# Altium integrated library Micron Memory Dynamic RAM.IntLib: 40 symbols (part 1 of 3)
Pins are listed as number, name and electrical type; pins without a type are passive.

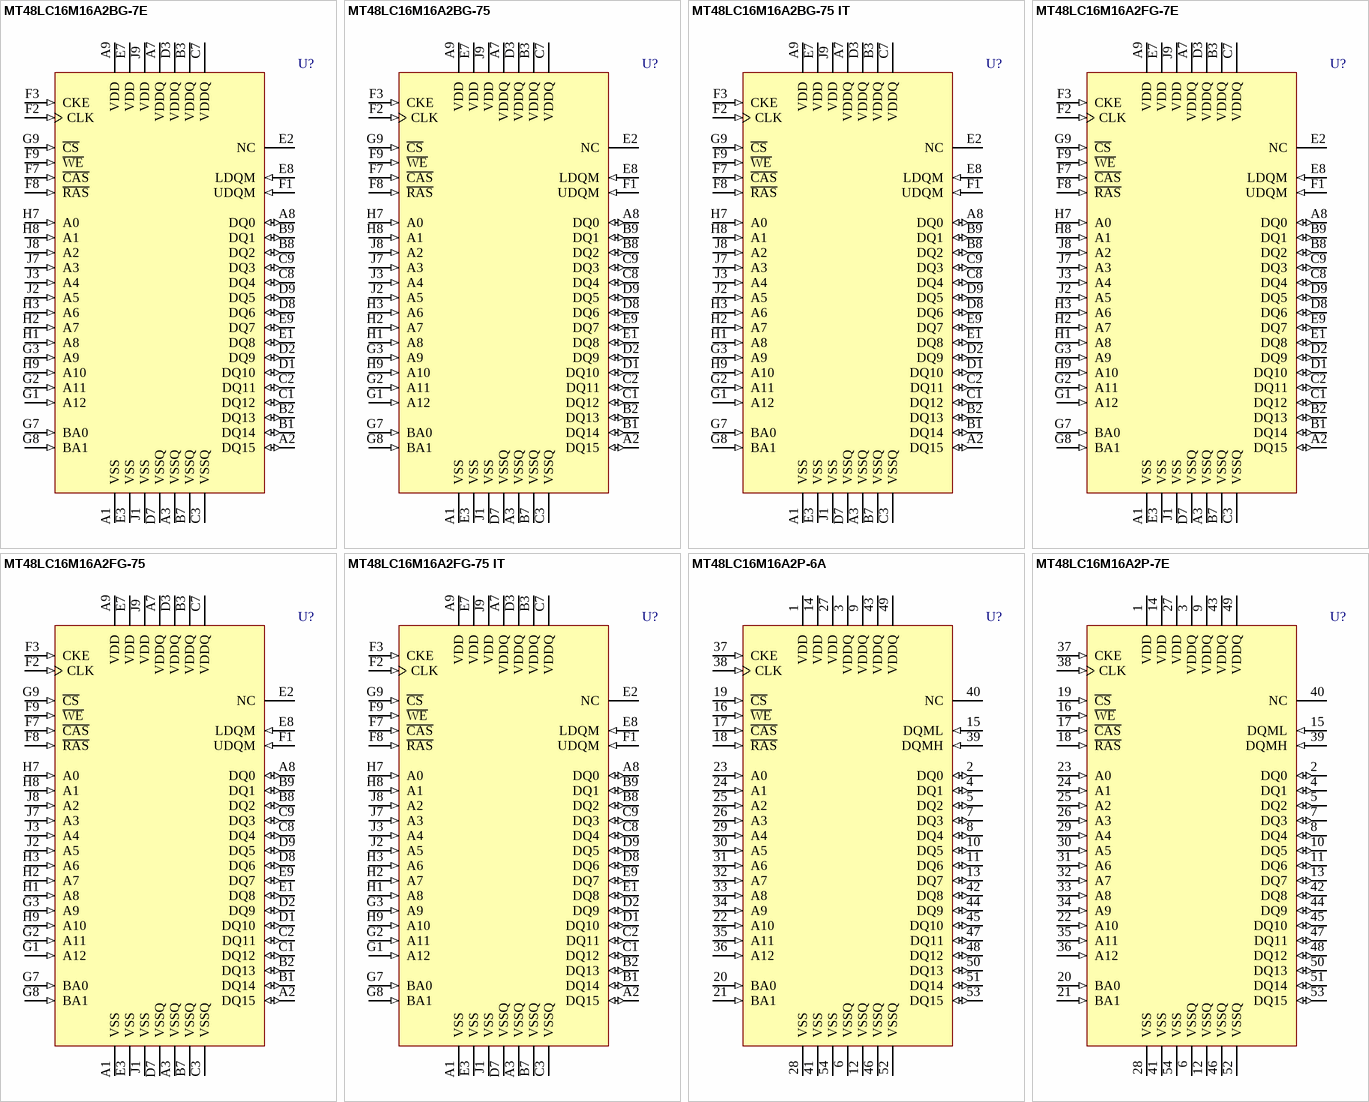
[diagram p0: symbols MT48LC16M16A2BG-7E to MT48LC16M16A2P-7E]

## MT48LC16M16A2BG-7E
designator U?
256Mb Synchronous High-Speed CMOS DRAM, 16Mb x 16Bit x 4 Banks, 54-Ball FPGA Pb-free, Commercial; CycleTime: 7.5ns @ CL = 2 (PC133); RowAddress: 8K (A0-A12); ColumnAddress: 512 (A0-A8); PCB_Layout: Manufacturer recommends pad size of 0.40mm ± 0.065mm.; Published: 11-Oct-2004; LatestRevisionDate: 27-Jun-2008; LatestRevisionNote: PCB Pad Size increased from 0.27mm.; DatasheetVersion: RevL, Oct-2007; PackageVersion: Oct-2007; PackageReference: FG; Publisher: Altium Limited; PackageDescription: 54-Ball VFBGA, 8 x 14 mm Body, 0.8 mm Pitch (FG); ComponentLink1Description: Manufacturer Link; ComponentLink1URL: http://www.micron.com; ComponentLink2Description: Datasheet; ComponentLink2URL: http://download.micron.com/pdf/datasheets/dram/sdram/256MSDRAM.pdf
footprint FG (BGA, 54-Leads, Body 14x8mm, Pitch 0.8mm)
pins: A1 VSS (power) "Ground", A2 DQ15 (io) "Data Input/Output 15", A3 VSSQ (power) "DQ Ground", A7 VDDQ (power) "DQ Power", A8 DQ0 (io) "Data Input/Output 0", A9 VDD (power) "Power Supply", B1 DQ14 (io) "Data Input/Output 14", B2 DQ13 (io) "Data Input/Output 13", B3 VDDQ (power) "DQ Power", B7 VSSQ (power) "DQ Ground", B8 DQ2 (io) "Data Input/Output 2", B9 DQ1 (io) "Data Input/Output 1", C1 DQ12 (io) "Data Input/Output 12", C2 DQ11 (io) "Data Input/Output 11", C3 VSSQ (power) "DQ Ground", C7 VDDQ (power) "DQ Power", C8 DQ4 (io) "Data Input/Output 4", C9 DQ3 (io) "Data Input/Output 3", D1 DQ10 (io) "Data Input/Output 10", D2 DQ9 (io) "Data Input/Output 9", D3 VDDQ (power) "DQ Power", D7 VSSQ (power) "DQ Ground", D8 DQ6 (io) "Data Input/Output 6", D9 DQ5 (io) "Data Input/Output 5", E1 DQ8 (io) "Data Input/Output 8", E2 NC "No Connect", E3 VSS (power) "Ground", E7 VDD (power) "Power Supply", E8 LDQM (in) "Input/Output Mask for DQ0-DQ7", E9 DQ7 (io) "Data Input/Output 7", F1 UDQM (in) "Input/Output Mask for DQ8-DQ15", F2 CLK (in) "Clock", F3 CKE (in) "Clock Enable", F7 ~{CAS} (in) "Command Input", F8 ~{RAS} (in) "Command Input", F9 ~{WE} (in) "Command Input", G1 A12 (in) "Address Input 12", G2 A11 (in) "Address Input 11", G3 A9 (in) "Address Input 9", G7 BA0 (in) "Bank Address Input 0", G8 BA1 (in) "Bank Address Input 1", G9 ~{CS} (in) "Chip Select", H1 A8 (in) "Address Input 8", H2 A7 (in) "Address Input 7", H3 A6 (in) "Address Input 6", H7 A0 (in) "Address Input 0", H8 A1 (in) "Address Input 1", H9 A10 (in) "Address Input 10", J1 VSS (power) "Ground", J2 A5 (in) "Address Input 5", J3 A4 (in) "Address Input 4", J7 A3 (in) "Address Input 3", J8 A2 (in) "Address Input 2", J9 VDD (power) "Power Supply"

## MT48LC16M16A2BG-75
designator U?
256Mb Synchronous High-Speed CMOS DRAM, 16Mb x 16Bit x 4 Banks, 54-Ball FPGA Pb-free, Commercial; CycleTime: 7.5ns @ CL = 3 (PC133); RowAddress: 8K (A0-A12); ColumnAddress: 512 (A0-A8); PCB_Layout: Manufacturer recommends pad size of 0.40mm ± 0.065mm.; Published: 11-Oct-2004; LatestRevisionDate: 27-Jun-2008; LatestRevisionNote: PCB Pad Size increased from 0.27mm.; DatasheetVersion: RevL, Oct-2007; PackageVersion: Oct-2007; PackageReference: FG; Publisher: Altium Limited; PackageDescription: 54-Ball VFBGA, 8 x 14 mm Body, 0.8 mm Pitch (FG); ComponentLink1Description: Manufacturer Link; ComponentLink1URL: http://www.micron.com; ComponentLink2Description: Datasheet; ComponentLink2URL: http://download.micron.com/pdf/datasheets/dram/sdram/256MSDRAM.pdf
footprint FG (BGA, 54-Leads, Body 14x8mm, Pitch 0.8mm)
pins: A1 VSS (power) "Ground", A2 DQ15 (io) "Data Input/Output 15", A3 VSSQ (power) "DQ Ground", A7 VDDQ (power) "DQ Power", A8 DQ0 (io) "Data Input/Output 0", A9 VDD (power) "Power Supply", B1 DQ14 (io) "Data Input/Output 14", B2 DQ13 (io) "Data Input/Output 13", B3 VDDQ (power) "DQ Power", B7 VSSQ (power) "DQ Ground", B8 DQ2 (io) "Data Input/Output 2", B9 DQ1 (io) "Data Input/Output 1", C1 DQ12 (io) "Data Input/Output 12", C2 DQ11 (io) "Data Input/Output 11", C3 VSSQ (power) "DQ Ground", C7 VDDQ (power) "DQ Power", C8 DQ4 (io) "Data Input/Output 4", C9 DQ3 (io) "Data Input/Output 3", D1 DQ10 (io) "Data Input/Output 10", D2 DQ9 (io) "Data Input/Output 9", D3 VDDQ (power) "DQ Power", D7 VSSQ (power) "DQ Ground", D8 DQ6 (io) "Data Input/Output 6", D9 DQ5 (io) "Data Input/Output 5", E1 DQ8 (io) "Data Input/Output 8", E2 NC "No Connect", E3 VSS (power) "Ground", E7 VDD (power) "Power Supply", E8 LDQM (in) "Input/Output Mask for DQ0-DQ7", E9 DQ7 (io) "Data Input/Output 7", F1 UDQM (in) "Input/Output Mask for DQ8-DQ15", F2 CLK (in) "Clock", F3 CKE (in) "Clock Enable", F7 ~{CAS} (in) "Command Input", F8 ~{RAS} (in) "Command Input", F9 ~{WE} (in) "Command Input", G1 A12 (in) "Address Input 12", G2 A11 (in) "Address Input 11", G3 A9 (in) "Address Input 9", G7 BA0 (in) "Bank Address Input 0", G8 BA1 (in) "Bank Address Input 1", G9 ~{CS} (in) "Chip Select", H1 A8 (in) "Address Input 8", H2 A7 (in) "Address Input 7", H3 A6 (in) "Address Input 6", H7 A0 (in) "Address Input 0", H8 A1 (in) "Address Input 1", H9 A10 (in) "Address Input 10", J1 VSS (power) "Ground", J2 A5 (in) "Address Input 5", J3 A4 (in) "Address Input 4", J7 A3 (in) "Address Input 3", J8 A2 (in) "Address Input 2", J9 VDD (power) "Power Supply"

## MT48LC16M16A2BG-75 IT
designator U?
256Mb Synchronous High-Speed CMOS DRAM, 16Mb x 16Bit x 4 Banks, 54-Ball FPGA Pb-free, Industrial; CycleTime: 7.5ns @ CL = 3 (PC133); RowAddress: 8K (A0-A12); ColumnAddress: 512 (A0-A8); PCB_Layout: Manufacturer recommends pad size of 0.40mm ± 0.065mm.; Published: 11-Oct-2004; LatestRevisionDate: 27-Jun-2008; LatestRevisionNote: PCB Pad Size increased from 0.27mm.; DatasheetVersion: RevL, Oct-2007; PackageVersion: Oct-2007; PackageReference: FG; Publisher: Altium Limited; PackageDescription: 54-Ball VFBGA, 8 x 14 mm Body, 0.8 mm Pitch (FG); ComponentLink1Description: Manufacturer Link; ComponentLink1URL: http://www.micron.com; ComponentLink2Description: Datasheet; ComponentLink2URL: http://download.micron.com/pdf/datasheets/dram/sdram/256MSDRAM.pdf
footprint FG (BGA, 54-Leads, Body 14x8mm, Pitch 0.8mm)
pins: A1 VSS (power) "Ground", A2 DQ15 (io) "Data Input/Output 15", A3 VSSQ (power) "DQ Ground", A7 VDDQ (power) "DQ Power", A8 DQ0 (io) "Data Input/Output 0", A9 VDD (power) "Power Supply", B1 DQ14 (io) "Data Input/Output 14", B2 DQ13 (io) "Data Input/Output 13", B3 VDDQ (power) "DQ Power", B7 VSSQ (power) "DQ Ground", B8 DQ2 (io) "Data Input/Output 2", B9 DQ1 (io) "Data Input/Output 1", C1 DQ12 (io) "Data Input/Output 12", C2 DQ11 (io) "Data Input/Output 11", C3 VSSQ (power) "DQ Ground", C7 VDDQ (power) "DQ Power", C8 DQ4 (io) "Data Input/Output 4", C9 DQ3 (io) "Data Input/Output 3", D1 DQ10 (io) "Data Input/Output 10", D2 DQ9 (io) "Data Input/Output 9", D3 VDDQ (power) "DQ Power", D7 VSSQ (power) "DQ Ground", D8 DQ6 (io) "Data Input/Output 6", D9 DQ5 (io) "Data Input/Output 5", E1 DQ8 (io) "Data Input/Output 8", E2 NC "No Connect", E3 VSS (power) "Ground", E7 VDD (power) "Power Supply", E8 LDQM (in) "Input/Output Mask for DQ0-DQ7", E9 DQ7 (io) "Data Input/Output 7", F1 UDQM (in) "Input/Output Mask for DQ8-DQ15", F2 CLK (in) "Clock", F3 CKE (in) "Clock Enable", F7 ~{CAS} (in) "Command Input", F8 ~{RAS} (in) "Command Input", F9 ~{WE} (in) "Command Input", G1 A12 (in) "Address Input 12", G2 A11 (in) "Address Input 11", G3 A9 (in) "Address Input 9", G7 BA0 (in) "Bank Address Input 0", G8 BA1 (in) "Bank Address Input 1", G9 ~{CS} (in) "Chip Select", H1 A8 (in) "Address Input 8", H2 A7 (in) "Address Input 7", H3 A6 (in) "Address Input 6", H7 A0 (in) "Address Input 0", H8 A1 (in) "Address Input 1", H9 A10 (in) "Address Input 10", J1 VSS (power) "Ground", J2 A5 (in) "Address Input 5", J3 A4 (in) "Address Input 4", J7 A3 (in) "Address Input 3", J8 A2 (in) "Address Input 2", J9 VDD (power) "Power Supply"

## MT48LC16M16A2FG-7E
designator U?
256Mb Synchronous High-Speed CMOS DRAM, 16Mb x 16Bit x 4 Banks, 54-Ball FPGA, Commercial; CycleTime: 7.5ns @ CL = 2 (PC133); RowAddress: 8K (A0-A12); ColumnAddress: 512 (A0-A8); PCB_Layout: Manufacturer recommends pad size of 0.40mm ± 0.065mm.; Published: 11-Oct-2004; LatestRevisionDate: 27-Jun-2008; LatestRevisionNote: PCB Pad Size increased from 0.27mm.; DatasheetVersion: RevL, Oct-2007; PackageVersion: Oct-2007; PackageReference: FG; Publisher: Altium Limited; PackageDescription: 54-Ball VFBGA, 8 x 14 mm Body, 0.8 mm Pitch (FG); ComponentLink1Description: Manufacturer Link; ComponentLink1URL: http://www.micron.com; ComponentLink2Description: Datasheet; ComponentLink2URL: http://download.micron.com/pdf/datasheets/dram/sdram/256MSDRAM.pdf
footprint FG (BGA, 54-Leads, Body 14x8mm, Pitch 0.8mm)
pins: A1 VSS (power) "Ground", A2 DQ15 (io) "Data Input/Output 15", A3 VSSQ (power) "DQ Ground", A7 VDDQ (power) "DQ Power", A8 DQ0 (io) "Data Input/Output 0", A9 VDD (power) "Power Supply", B1 DQ14 (io) "Data Input/Output 14", B2 DQ13 (io) "Data Input/Output 13", B3 VDDQ (power) "DQ Power", B7 VSSQ (power) "DQ Ground", B8 DQ2 (io) "Data Input/Output 2", B9 DQ1 (io) "Data Input/Output 1", C1 DQ12 (io) "Data Input/Output 12", C2 DQ11 (io) "Data Input/Output 11", C3 VSSQ (power) "DQ Ground", C7 VDDQ (power) "DQ Power", C8 DQ4 (io) "Data Input/Output 4", C9 DQ3 (io) "Data Input/Output 3", D1 DQ10 (io) "Data Input/Output 10", D2 DQ9 (io) "Data Input/Output 9", D3 VDDQ (power) "DQ Power", D7 VSSQ (power) "DQ Ground", D8 DQ6 (io) "Data Input/Output 6", D9 DQ5 (io) "Data Input/Output 5", E1 DQ8 (io) "Data Input/Output 8", E2 NC "No Connect", E3 VSS (power) "Ground", E7 VDD (power) "Power Supply", E8 LDQM (in) "Input/Output Mask for DQ0-DQ7", E9 DQ7 (io) "Data Input/Output 7", F1 UDQM (in) "Input/Output Mask for DQ8-DQ15", F2 CLK (in) "Clock", F3 CKE (in) "Clock Enable", F7 ~{CAS} (in) "Command Input", F8 ~{RAS} (in) "Command Input", F9 ~{WE} (in) "Command Input", G1 A12 (in) "Address Input 12", G2 A11 (in) "Address Input 11", G3 A9 (in) "Address Input 9", G7 BA0 (in) "Bank Address Input 0", G8 BA1 (in) "Bank Address Input 1", G9 ~{CS} (in) "Chip Select", H1 A8 (in) "Address Input 8", H2 A7 (in) "Address Input 7", H3 A6 (in) "Address Input 6", H7 A0 (in) "Address Input 0", H8 A1 (in) "Address Input 1", H9 A10 (in) "Address Input 10", J1 VSS (power) "Ground", J2 A5 (in) "Address Input 5", J3 A4 (in) "Address Input 4", J7 A3 (in) "Address Input 3", J8 A2 (in) "Address Input 2", J9 VDD (power) "Power Supply"

## MT48LC16M16A2FG-75
designator U?
256Mb Synchronous High-Speed CMOS DRAM, 16Mb x 16Bit x 4 Banks, 54-Ball FPGA, Commercial; CycleTime: 7.5ns @ CL = 3 (PC133); RowAddress: 8K (A0-A12); ColumnAddress: 512 (A0-A8); PCB_Layout: Manufacturer recommends pad size of 0.40mm ± 0.065mm.; Published: 11-Oct-2004; LatestRevisionDate: 27-Jun-2008; LatestRevisionNote: PCB Pad Size increased from 0.27mm.; DatasheetVersion: RevL, Oct-2007; PackageVersion: Oct-2007; PackageReference: FG; Publisher: Altium Limited; PackageDescription: 54-Ball VFBGA, 8 x 14 mm Body, 0.8 mm Pitch (FG); ComponentLink1Description: Manufacturer Link; ComponentLink1URL: http://www.micron.com; ComponentLink2Description: Datasheet; ComponentLink2URL: http://download.micron.com/pdf/datasheets/dram/sdram/256MSDRAM.pdf
footprint FG (BGA, 54-Leads, Body 14x8mm, Pitch 0.8mm)
pins: A1 VSS (power) "Ground", A2 DQ15 (io) "Data Input/Output 15", A3 VSSQ (power) "DQ Ground", A7 VDDQ (power) "DQ Power", A8 DQ0 (io) "Data Input/Output 0", A9 VDD (power) "Power Supply", B1 DQ14 (io) "Data Input/Output 14", B2 DQ13 (io) "Data Input/Output 13", B3 VDDQ (power) "DQ Power", B7 VSSQ (power) "DQ Ground", B8 DQ2 (io) "Data Input/Output 2", B9 DQ1 (io) "Data Input/Output 1", C1 DQ12 (io) "Data Input/Output 12", C2 DQ11 (io) "Data Input/Output 11", C3 VSSQ (power) "DQ Ground", C7 VDDQ (power) "DQ Power", C8 DQ4 (io) "Data Input/Output 4", C9 DQ3 (io) "Data Input/Output 3", D1 DQ10 (io) "Data Input/Output 10", D2 DQ9 (io) "Data Input/Output 9", D3 VDDQ (power) "DQ Power", D7 VSSQ (power) "DQ Ground", D8 DQ6 (io) "Data Input/Output 6", D9 DQ5 (io) "Data Input/Output 5", E1 DQ8 (io) "Data Input/Output 8", E2 NC "No Connect", E3 VSS (power) "Ground", E7 VDD (power) "Power Supply", E8 LDQM (in) "Input/Output Mask for DQ0-DQ7", E9 DQ7 (io) "Data Input/Output 7", F1 UDQM (in) "Input/Output Mask for DQ8-DQ15", F2 CLK (in) "Clock", F3 CKE (in) "Clock Enable", F7 ~{CAS} (in) "Command Input", F8 ~{RAS} (in) "Command Input", F9 ~{WE} (in) "Command Input", G1 A12 (in) "Address Input 12", G2 A11 (in) "Address Input 11", G3 A9 (in) "Address Input 9", G7 BA0 (in) "Bank Address Input 0", G8 BA1 (in) "Bank Address Input 1", G9 ~{CS} (in) "Chip Select", H1 A8 (in) "Address Input 8", H2 A7 (in) "Address Input 7", H3 A6 (in) "Address Input 6", H7 A0 (in) "Address Input 0", H8 A1 (in) "Address Input 1", H9 A10 (in) "Address Input 10", J1 VSS (power) "Ground", J2 A5 (in) "Address Input 5", J3 A4 (in) "Address Input 4", J7 A3 (in) "Address Input 3", J8 A2 (in) "Address Input 2", J9 VDD (power) "Power Supply"

## MT48LC16M16A2FG-75 IT
designator U?
256Mb Synchronous High-Speed CMOS DRAM, 16Mb x 16Bit x 4 Banks, 54-Ball FPGA, Industrial; CycleTime: 7.5ns @ CL = 3 (PC133); RowAddress: 8K (A0-A12); ColumnAddress: 512 (A0-A8); PCB_Layout: Manufacturer recommends pad size of 0.40mm ± 0.065mm.; Published: 11-Oct-2004; LatestRevisionDate: 27-Jun-2008; LatestRevisionNote: PCB Pad Size increased from 0.27mm.; DatasheetVersion: RevL, Oct-2007; PackageVersion: Oct-2007; PackageReference: FG; Publisher: Altium Limited; PackageDescription: 54-Ball VFBGA, 8 x 14 mm Body, 0.8 mm Pitch (FG); ComponentLink1Description: Manufacturer Link; ComponentLink1URL: http://www.micron.com; ComponentLink2Description: Datasheet; ComponentLink2URL: http://download.micron.com/pdf/datasheets/dram/sdram/256MSDRAM.pdf
footprint FG (BGA, 54-Leads, Body 14x8mm, Pitch 0.8mm)
pins: A1 VSS (power) "Ground", A2 DQ15 (io) "Data Input/Output 15", A3 VSSQ (power) "DQ Ground", A7 VDDQ (power) "DQ Power", A8 DQ0 (io) "Data Input/Output 0", A9 VDD (power) "Power Supply", B1 DQ14 (io) "Data Input/Output 14", B2 DQ13 (io) "Data Input/Output 13", B3 VDDQ (power) "DQ Power", B7 VSSQ (power) "DQ Ground", B8 DQ2 (io) "Data Input/Output 2", B9 DQ1 (io) "Data Input/Output 1", C1 DQ12 (io) "Data Input/Output 12", C2 DQ11 (io) "Data Input/Output 11", C3 VSSQ (power) "DQ Ground", C7 VDDQ (power) "DQ Power", C8 DQ4 (io) "Data Input/Output 4", C9 DQ3 (io) "Data Input/Output 3", D1 DQ10 (io) "Data Input/Output 10", D2 DQ9 (io) "Data Input/Output 9", D3 VDDQ (power) "DQ Power", D7 VSSQ (power) "DQ Ground", D8 DQ6 (io) "Data Input/Output 6", D9 DQ5 (io) "Data Input/Output 5", E1 DQ8 (io) "Data Input/Output 8", E2 NC "No Connect", E3 VSS (power) "Ground", E7 VDD (power) "Power Supply", E8 LDQM (in) "Input/Output Mask for DQ0-DQ7", E9 DQ7 (io) "Data Input/Output 7", F1 UDQM (in) "Input/Output Mask for DQ8-DQ15", F2 CLK (in) "Clock", F3 CKE (in) "Clock Enable", F7 ~{CAS} (in) "Command Input", F8 ~{RAS} (in) "Command Input", F9 ~{WE} (in) "Command Input", G1 A12 (in) "Address Input 12", G2 A11 (in) "Address Input 11", G3 A9 (in) "Address Input 9", G7 BA0 (in) "Bank Address Input 0", G8 BA1 (in) "Bank Address Input 1", G9 ~{CS} (in) "Chip Select", H1 A8 (in) "Address Input 8", H2 A7 (in) "Address Input 7", H3 A6 (in) "Address Input 6", H7 A0 (in) "Address Input 0", H8 A1 (in) "Address Input 1", H9 A10 (in) "Address Input 10", J1 VSS (power) "Ground", J2 A5 (in) "Address Input 5", J3 A4 (in) "Address Input 4", J7 A3 (in) "Address Input 3", J8 A2 (in) "Address Input 2", J9 VDD (power) "Power Supply"

## MT48LC16M16A2P-6A
designator U?
256Mb Synchronous High-Speed CMOS DRAM, 16Mb x 16Bit x 4 Banks, 54-Pin TSOP Pb-free, Commercial; CycleTime: 6.0ns @ CL = 3; RowAddress: 8K (A0-A12); ColumnAddress: 512 (A0-A8); Published: 11-Oct-2004; LatestRevisionDate: 13-Apr-2006; LatestRevisionNote: IPC-7351 Footprint Added.; DatasheetVersion: RevL, Oct-2007; PackageVersion: Sep-2003; PackageReference: TSOP2-54; Publisher: Altium Limited; PackageDescription: 54-Pin Plastic Small Outline Package 0.8 mm Pitch; Code_JEDEC: MS-024-FA; ComponentLink1Description: Manufacturer Link; ComponentLink1URL: http://www.micron.com; ComponentLink2Description: Datasheet; ComponentLink2URL: http://download.micron.com/pdf/datasheets/dram/sdram/256MSDRAM.pdf
footprint TSOP2-54_N (SOP, 54-Leads, Body 22.2x10.16mm, Pitch 0.8mm, IPC Medium Density)
footprint TSOP2-54_L (SOP, 54-Leads, Body 22.2x10.16mm, Pitch 0.8mm, IPC High Density)
footprint TSOP2-54_M (SOP, 54-Leads, Body 22.2x10.16mm, Pitch 0.8mm, IPC Low Density)
pins: 1 VDD (power) "Power Supply", 2 DQ0 (io) "Data Input/Output 0", 3 VDDQ (power) "DQ Power", 4 DQ1 (io) "Data Input/Output 1", 5 DQ2 (io) "Data Input/Output 2", 6 VSSQ (power) "DQ Ground", 7 DQ3 (io) "Data Input/Output 3", 8 DQ4 (io) "Data Input/Output 4", 9 VDDQ (power) "DQ Power", 10 DQ5 (io) "Data Input/Output 5", 11 DQ6 (io) "Data Input/Output 6", 12 VSSQ (power) "DQ Ground", 13 DQ7 (io) "Data Input/Output 7", 14 VDD (power) "Power Supply", 15 DQML (in) "Input/Output Mask for DQ0-DQ7", 16 ~{WE} (in) "Command Input", 17 ~{CAS} (in) "Command Input", 18 ~{RAS} (in) "Command Input", 19 ~{CS} (in) "Chip Select", 20 BA0 (in) "Bank Address Input 0", 21 BA1 (in) "Bank Address Input 1", 22 A10 (in) "Address Input 10", 23 A0 (in) "Address Input 0", 24 A1 (in) "Address Input 1", 25 A2 (in) "Address Input 2", 26 A3 (in) "Address Input 3", 27 VDD (power) "Power Supply", 28 VSS (power) "Ground", 29 A4 (in) "Address Input 4", 30 A5 (in) "Address Input 5", 31 A6 (in) "Address Input 6", 32 A7 (in) "Address Input 7", 33 A8 (in) "Address Input 8", 34 A9 (in) "Address Input 9", 35 A11 (in) "Address Input 11", 36 A12 (in) "Address Input 12", 37 CKE (in) "Clock Enable", 38 CLK (in) "Clock", 39 DQMH (in) "Input/Output Mask for DQ8-DQ15", 40 NC "No Connect", 41 VSS (power) "Ground", 42 DQ8 (io) "Data Input/Output 8", 43 VDDQ (power) "DQ Power", 44 DQ9 (io) "Data Input/Output 9", 45 DQ10 (io) "Data Input/Output 10", 46 VSSQ (power) "DQ Ground", 47 DQ11 (io) "Data Input/Output 11", 48 DQ12 (io) "Data Input/Output 12", 49 VDDQ (power) "DQ Power", 50 DQ13 (io) "Data Input/Output 13", 51 DQ14 (io) "Data Input/Output 14", 52 VSSQ (power) "DQ Ground", 53 DQ15 (io) "Data Input/Output 15", 54 VSS (power) "Ground"

## MT48LC16M16A2P-7E
designator U?
256Mb Synchronous High-Speed CMOS DRAM, 16Mb x 16Bit x 4 Banks, 54-Pin TSOP Pb-free, Commercial; CycleTime: 7.5ns @ CL = 2 (PC133); RowAddress: 8K (A0-A12); ColumnAddress: 512 (A0-A8); Published: 11-Oct-2004; LatestRevisionDate: 13-Apr-2006; LatestRevisionNote: IPC-7351 Footprint Added.; DatasheetVersion: RevL, Oct-2007; PackageVersion: Sep-2003; PackageReference: TSOP2-54; Publisher: Altium Limited; PackageDescription: 54-Pin Plastic Small Outline Package 0.8 mm Pitch; Code_JEDEC: MS-024-FA; ComponentLink1Description: Manufacturer Link; ComponentLink1URL: http://www.micron.com; ComponentLink2Description: Datasheet; ComponentLink2URL: http://download.micron.com/pdf/datasheets/dram/sdram/256MSDRAM.pdf
footprint TSOP2-54_N (SOP, 54-Leads, Body 22.2x10.16mm, Pitch 0.8mm, IPC Medium Density)
footprint TSOP2-54_L (SOP, 54-Leads, Body 22.2x10.16mm, Pitch 0.8mm, IPC High Density)
footprint TSOP2-54_M (SOP, 54-Leads, Body 22.2x10.16mm, Pitch 0.8mm, IPC Low Density)
pins: 1 VDD (power) "Power Supply", 2 DQ0 (io) "Data Input/Output 0", 3 VDDQ (power) "DQ Power", 4 DQ1 (io) "Data Input/Output 1", 5 DQ2 (io) "Data Input/Output 2", 6 VSSQ (power) "DQ Ground", 7 DQ3 (io) "Data Input/Output 3", 8 DQ4 (io) "Data Input/Output 4", 9 VDDQ (power) "DQ Power", 10 DQ5 (io) "Data Input/Output 5", 11 DQ6 (io) "Data Input/Output 6", 12 VSSQ (power) "DQ Ground", 13 DQ7 (io) "Data Input/Output 7", 14 VDD (power) "Power Supply", 15 DQML (in) "Input/Output Mask for DQ0-DQ7", 16 ~{WE} (in) "Command Input", 17 ~{CAS} (in) "Command Input", 18 ~{RAS} (in) "Command Input", 19 ~{CS} (in) "Chip Select", 20 BA0 (in) "Bank Address Input 0", 21 BA1 (in) "Bank Address Input 1", 22 A10 (in) "Address Input 10", 23 A0 (in) "Address Input 0", 24 A1 (in) "Address Input 1", 25 A2 (in) "Address Input 2", 26 A3 (in) "Address Input 3", 27 VDD (power) "Power Supply", 28 VSS (power) "Ground", 29 A4 (in) "Address Input 4", 30 A5 (in) "Address Input 5", 31 A6 (in) "Address Input 6", 32 A7 (in) "Address Input 7", 33 A8 (in) "Address Input 8", 34 A9 (in) "Address Input 9", 35 A11 (in) "Address Input 11", 36 A12 (in) "Address Input 12", 37 CKE (in) "Clock Enable", 38 CLK (in) "Clock", 39 DQMH (in) "Input/Output Mask for DQ8-DQ15", 40 NC "No Connect", 41 VSS (power) "Ground", 42 DQ8 (io) "Data Input/Output 8", 43 VDDQ (power) "DQ Power", 44 DQ9 (io) "Data Input/Output 9", 45 DQ10 (io) "Data Input/Output 10", 46 VSSQ (power) "DQ Ground", 47 DQ11 (io) "Data Input/Output 11", 48 DQ12 (io) "Data Input/Output 12", 49 VDDQ (power) "DQ Power", 50 DQ13 (io) "Data Input/Output 13", 51 DQ14 (io) "Data Input/Output 14", 52 VSSQ (power) "DQ Ground", 53 DQ15 (io) "Data Input/Output 15", 54 VSS (power) "Ground"

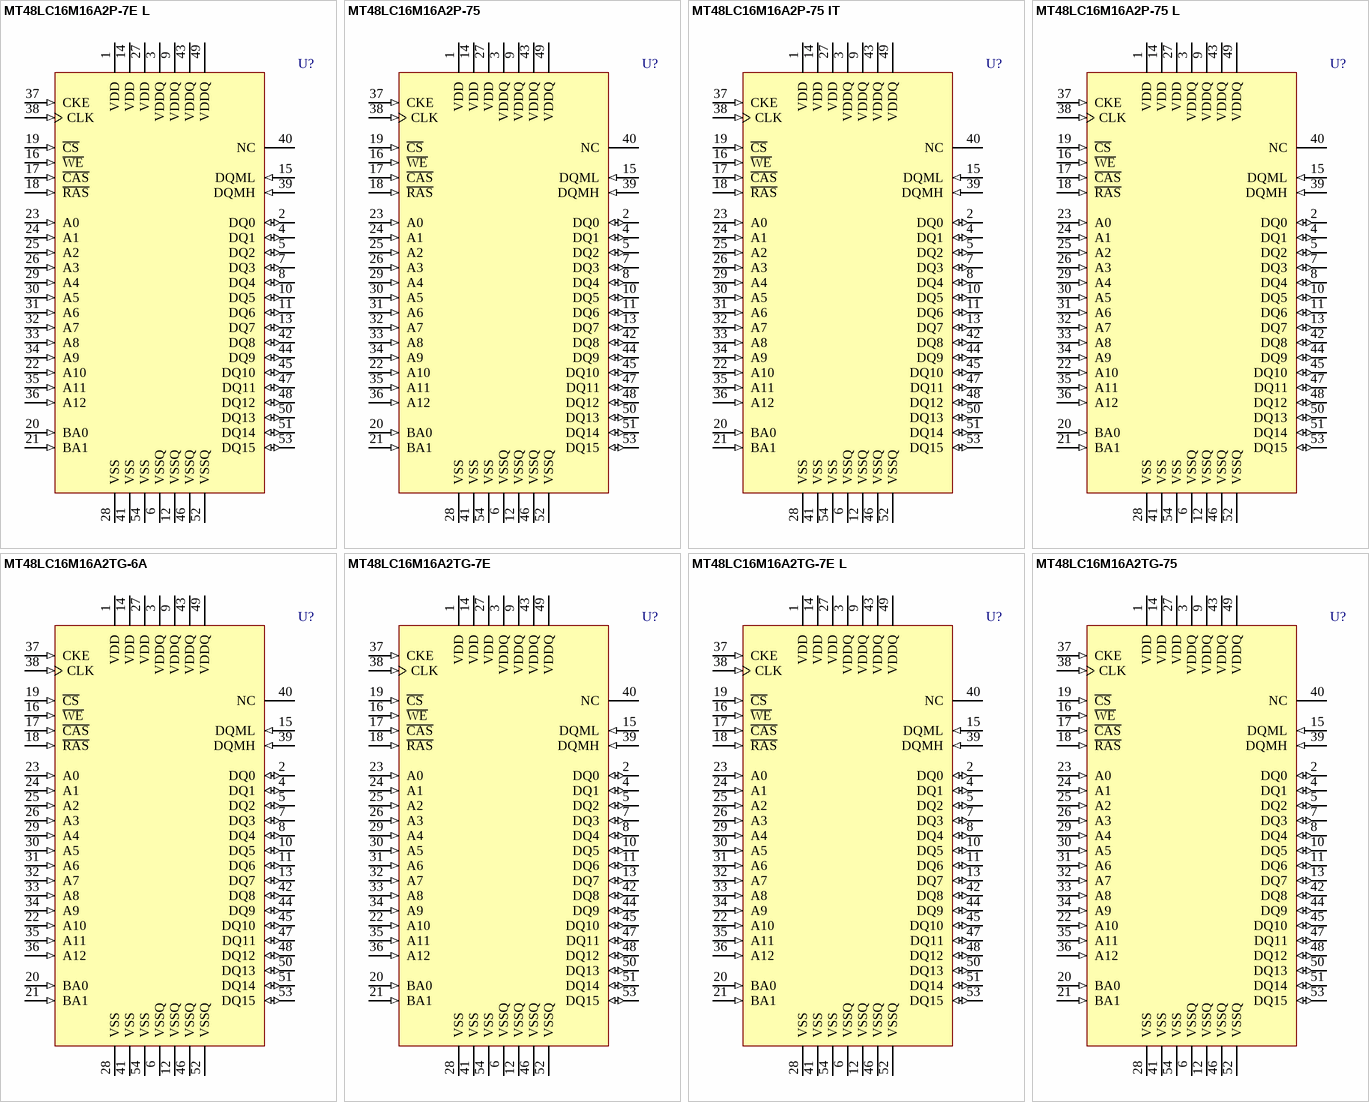
[diagram p1: symbols MT48LC16M16A2P-7E L to MT48LC16M16A2TG-75]

## MT48LC16M16A2P-7E L
designator U?
256Mb Synchronous High-Speed CMOS DRAM, 16Mb x 16Bit x 4 Banks, 54-Pin TSOP Pb-free, Commercial, Low Power; CycleTime: 7.5ns @ CL = 2 (PC133); RowAddress: 8K (A0-A12); ColumnAddress: 512 (A0-A8); Published: 11-Oct-2004; LatestRevisionDate: 13-Apr-2006; LatestRevisionNote: IPC-7351 Footprint Added.; DatasheetVersion: RevL, Oct-2007; PackageVersion: Sep-2003; PackageReference: TSOP2-54; Publisher: Altium Limited; PackageDescription: 54-Pin Plastic Small Outline Package 0.8 mm Pitch; Code_JEDEC: MS-024-FA; ComponentLink1Description: Manufacturer Link; ComponentLink1URL: http://www.micron.com; ComponentLink2Description: Datasheet; ComponentLink2URL: http://download.micron.com/pdf/datasheets/dram/sdram/256MSDRAM.pdf
footprint TSOP2-54_N (SOP, 54-Leads, Body 22.2x10.16mm, Pitch 0.8mm, IPC Medium Density)
footprint TSOP2-54_L (SOP, 54-Leads, Body 22.2x10.16mm, Pitch 0.8mm, IPC High Density)
footprint TSOP2-54_M (SOP, 54-Leads, Body 22.2x10.16mm, Pitch 0.8mm, IPC Low Density)
pins: 1 VDD (power) "Power Supply", 2 DQ0 (io) "Data Input/Output 0", 3 VDDQ (power) "DQ Power", 4 DQ1 (io) "Data Input/Output 1", 5 DQ2 (io) "Data Input/Output 2", 6 VSSQ (power) "DQ Ground", 7 DQ3 (io) "Data Input/Output 3", 8 DQ4 (io) "Data Input/Output 4", 9 VDDQ (power) "DQ Power", 10 DQ5 (io) "Data Input/Output 5", 11 DQ6 (io) "Data Input/Output 6", 12 VSSQ (power) "DQ Ground", 13 DQ7 (io) "Data Input/Output 7", 14 VDD (power) "Power Supply", 15 DQML (in) "Input/Output Mask for DQ0-DQ7", 16 ~{WE} (in) "Command Input", 17 ~{CAS} (in) "Command Input", 18 ~{RAS} (in) "Command Input", 19 ~{CS} (in) "Chip Select", 20 BA0 (in) "Bank Address Input 0", 21 BA1 (in) "Bank Address Input 1", 22 A10 (in) "Address Input 10", 23 A0 (in) "Address Input 0", 24 A1 (in) "Address Input 1", 25 A2 (in) "Address Input 2", 26 A3 (in) "Address Input 3", 27 VDD (power) "Power Supply", 28 VSS (power) "Ground", 29 A4 (in) "Address Input 4", 30 A5 (in) "Address Input 5", 31 A6 (in) "Address Input 6", 32 A7 (in) "Address Input 7", 33 A8 (in) "Address Input 8", 34 A9 (in) "Address Input 9", 35 A11 (in) "Address Input 11", 36 A12 (in) "Address Input 12", 37 CKE (in) "Clock Enable", 38 CLK (in) "Clock", 39 DQMH (in) "Input/Output Mask for DQ8-DQ15", 40 NC "No Connect", 41 VSS (power) "Ground", 42 DQ8 (io) "Data Input/Output 8", 43 VDDQ (power) "DQ Power", 44 DQ9 (io) "Data Input/Output 9", 45 DQ10 (io) "Data Input/Output 10", 46 VSSQ (power) "DQ Ground", 47 DQ11 (io) "Data Input/Output 11", 48 DQ12 (io) "Data Input/Output 12", 49 VDDQ (power) "DQ Power", 50 DQ13 (io) "Data Input/Output 13", 51 DQ14 (io) "Data Input/Output 14", 52 VSSQ (power) "DQ Ground", 53 DQ15 (io) "Data Input/Output 15", 54 VSS (power) "Ground"

## MT48LC16M16A2P-75
designator U?
256Mb Synchronous High-Speed CMOS DRAM, 16Mb x 16Bit x 4 Banks, 54-Pin TSOP Pb-free, Commercial; CycleTime: 7.5ns @ CL = 3 (PC133); RowAddress: 8K (A0-A12); ColumnAddress: 512 (A0-A8); Published: 11-Oct-2004; LatestRevisionDate: 13-Apr-2006; LatestRevisionNote: IPC-7351 Footprint Added.; DatasheetVersion: RevL, Oct-2007; PackageVersion: Sep-2003; PackageReference: TSOP2-54; Publisher: Altium Limited; PackageDescription: 54-Pin Plastic Small Outline Package 0.8 mm Pitch; Code_JEDEC: MS-024-FA; ComponentLink1Description: Manufacturer Link; ComponentLink1URL: http://www.micron.com; ComponentLink2Description: Datasheet; ComponentLink2URL: http://download.micron.com/pdf/datasheets/dram/sdram/256MSDRAM.pdf
footprint TSOP2-54_N (SOP, 54-Leads, Body 22.2x10.16mm, Pitch 0.8mm, IPC Medium Density)
footprint TSOP2-54_L (SOP, 54-Leads, Body 22.2x10.16mm, Pitch 0.8mm, IPC High Density)
footprint TSOP2-54_M (SOP, 54-Leads, Body 22.2x10.16mm, Pitch 0.8mm, IPC Low Density)
pins: 1 VDD (power) "Power Supply", 2 DQ0 (io) "Data Input/Output 0", 3 VDDQ (power) "DQ Power", 4 DQ1 (io) "Data Input/Output 1", 5 DQ2 (io) "Data Input/Output 2", 6 VSSQ (power) "DQ Ground", 7 DQ3 (io) "Data Input/Output 3", 8 DQ4 (io) "Data Input/Output 4", 9 VDDQ (power) "DQ Power", 10 DQ5 (io) "Data Input/Output 5", 11 DQ6 (io) "Data Input/Output 6", 12 VSSQ (power) "DQ Ground", 13 DQ7 (io) "Data Input/Output 7", 14 VDD (power) "Power Supply", 15 DQML (in) "Input/Output Mask for DQ0-DQ7", 16 ~{WE} (in) "Command Input", 17 ~{CAS} (in) "Command Input", 18 ~{RAS} (in) "Command Input", 19 ~{CS} (in) "Chip Select", 20 BA0 (in) "Bank Address Input 0", 21 BA1 (in) "Bank Address Input 1", 22 A10 (in) "Address Input 10", 23 A0 (in) "Address Input 0", 24 A1 (in) "Address Input 1", 25 A2 (in) "Address Input 2", 26 A3 (in) "Address Input 3", 27 VDD (power) "Power Supply", 28 VSS (power) "Ground", 29 A4 (in) "Address Input 4", 30 A5 (in) "Address Input 5", 31 A6 (in) "Address Input 6", 32 A7 (in) "Address Input 7", 33 A8 (in) "Address Input 8", 34 A9 (in) "Address Input 9", 35 A11 (in) "Address Input 11", 36 A12 (in) "Address Input 12", 37 CKE (in) "Clock Enable", 38 CLK (in) "Clock", 39 DQMH (in) "Input/Output Mask for DQ8-DQ15", 40 NC "No Connect", 41 VSS (power) "Ground", 42 DQ8 (io) "Data Input/Output 8", 43 VDDQ (power) "DQ Power", 44 DQ9 (io) "Data Input/Output 9", 45 DQ10 (io) "Data Input/Output 10", 46 VSSQ (power) "DQ Ground", 47 DQ11 (io) "Data Input/Output 11", 48 DQ12 (io) "Data Input/Output 12", 49 VDDQ (power) "DQ Power", 50 DQ13 (io) "Data Input/Output 13", 51 DQ14 (io) "Data Input/Output 14", 52 VSSQ (power) "DQ Ground", 53 DQ15 (io) "Data Input/Output 15", 54 VSS (power) "Ground"

## MT48LC16M16A2P-75 IT
designator U?
256Mb Synchronous High-Speed CMOS DRAM, 16Mb x 16Bit x 4 Banks, 54-Pin TSOP Pb-free, Industrial; CycleTime: 7.5ns @ CL = 3 (PC133); RowAddress: 8K (A0-A12); ColumnAddress: 512 (A0-A8); Published: 11-Oct-2004; LatestRevisionDate: 13-Apr-2006; LatestRevisionNote: IPC-7351 Footprint Added.; DatasheetVersion: RevL, Oct-2007; PackageVersion: Sep-2003; PackageReference: TSOP2-54; Publisher: Altium Limited; PackageDescription: 54-Pin Plastic Small Outline Package 0.8 mm Pitch; Code_JEDEC: MS-024-FA; ComponentLink1Description: Manufacturer Link; ComponentLink1URL: http://www.micron.com; ComponentLink2Description: Datasheet; ComponentLink2URL: http://download.micron.com/pdf/datasheets/dram/sdram/256MSDRAM.pdf
footprint TSOP2-54_N (SOP, 54-Leads, Body 22.2x10.16mm, Pitch 0.8mm, IPC Medium Density)
footprint TSOP2-54_L (SOP, 54-Leads, Body 22.2x10.16mm, Pitch 0.8mm, IPC High Density)
footprint TSOP2-54_M (SOP, 54-Leads, Body 22.2x10.16mm, Pitch 0.8mm, IPC Low Density)
pins: 1 VDD (power) "Power Supply", 2 DQ0 (io) "Data Input/Output 0", 3 VDDQ (power) "DQ Power", 4 DQ1 (io) "Data Input/Output 1", 5 DQ2 (io) "Data Input/Output 2", 6 VSSQ (power) "DQ Ground", 7 DQ3 (io) "Data Input/Output 3", 8 DQ4 (io) "Data Input/Output 4", 9 VDDQ (power) "DQ Power", 10 DQ5 (io) "Data Input/Output 5", 11 DQ6 (io) "Data Input/Output 6", 12 VSSQ (power) "DQ Ground", 13 DQ7 (io) "Data Input/Output 7", 14 VDD (power) "Power Supply", 15 DQML (in) "Input/Output Mask for DQ0-DQ7", 16 ~{WE} (in) "Command Input", 17 ~{CAS} (in) "Command Input", 18 ~{RAS} (in) "Command Input", 19 ~{CS} (in) "Chip Select", 20 BA0 (in) "Bank Address Input 0", 21 BA1 (in) "Bank Address Input 1", 22 A10 (in) "Address Input 10", 23 A0 (in) "Address Input 0", 24 A1 (in) "Address Input 1", 25 A2 (in) "Address Input 2", 26 A3 (in) "Address Input 3", 27 VDD (power) "Power Supply", 28 VSS (power) "Ground", 29 A4 (in) "Address Input 4", 30 A5 (in) "Address Input 5", 31 A6 (in) "Address Input 6", 32 A7 (in) "Address Input 7", 33 A8 (in) "Address Input 8", 34 A9 (in) "Address Input 9", 35 A11 (in) "Address Input 11", 36 A12 (in) "Address Input 12", 37 CKE (in) "Clock Enable", 38 CLK (in) "Clock", 39 DQMH (in) "Input/Output Mask for DQ8-DQ15", 40 NC "No Connect", 41 VSS (power) "Ground", 42 DQ8 (io) "Data Input/Output 8", 43 VDDQ (power) "DQ Power", 44 DQ9 (io) "Data Input/Output 9", 45 DQ10 (io) "Data Input/Output 10", 46 VSSQ (power) "DQ Ground", 47 DQ11 (io) "Data Input/Output 11", 48 DQ12 (io) "Data Input/Output 12", 49 VDDQ (power) "DQ Power", 50 DQ13 (io) "Data Input/Output 13", 51 DQ14 (io) "Data Input/Output 14", 52 VSSQ (power) "DQ Ground", 53 DQ15 (io) "Data Input/Output 15", 54 VSS (power) "Ground"

## MT48LC16M16A2P-75 L
designator U?
256Mb Synchronous High-Speed CMOS DRAM, 16Mb x 16Bit x 4 Banks, 54-Pin TSOP Pb-free, Commercial, Low Power; CycleTime: 7.5ns @ CL = 3 (PC133); RowAddress: 8K (A0-A12); ColumnAddress: 512 (A0-A8); Published: 11-Oct-2004; LatestRevisionDate: 13-Apr-2006; LatestRevisionNote: IPC-7351 Footprint Added.; DatasheetVersion: RevL, Oct-2007; PackageVersion: Sep-2003; PackageReference: TSOP2-54; Publisher: Altium Limited; PackageDescription: 54-Pin Plastic Small Outline Package 0.8 mm Pitch; Code_JEDEC: MS-024-FA; ComponentLink1Description: Manufacturer Link; ComponentLink1URL: http://www.micron.com; ComponentLink2Description: Datasheet; ComponentLink2URL: http://download.micron.com/pdf/datasheets/dram/sdram/256MSDRAM.pdf
footprint TSOP2-54_N (SOP, 54-Leads, Body 22.2x10.16mm, Pitch 0.8mm, IPC Medium Density)
footprint TSOP2-54_L (SOP, 54-Leads, Body 22.2x10.16mm, Pitch 0.8mm, IPC High Density)
footprint TSOP2-54_M (SOP, 54-Leads, Body 22.2x10.16mm, Pitch 0.8mm, IPC Low Density)
pins: 1 VDD (power) "Power Supply", 2 DQ0 (io) "Data Input/Output 0", 3 VDDQ (power) "DQ Power", 4 DQ1 (io) "Data Input/Output 1", 5 DQ2 (io) "Data Input/Output 2", 6 VSSQ (power) "DQ Ground", 7 DQ3 (io) "Data Input/Output 3", 8 DQ4 (io) "Data Input/Output 4", 9 VDDQ (power) "DQ Power", 10 DQ5 (io) "Data Input/Output 5", 11 DQ6 (io) "Data Input/Output 6", 12 VSSQ (power) "DQ Ground", 13 DQ7 (io) "Data Input/Output 7", 14 VDD (power) "Power Supply", 15 DQML (in) "Input/Output Mask for DQ0-DQ7", 16 ~{WE} (in) "Command Input", 17 ~{CAS} (in) "Command Input", 18 ~{RAS} (in) "Command Input", 19 ~{CS} (in) "Chip Select", 20 BA0 (in) "Bank Address Input 0", 21 BA1 (in) "Bank Address Input 1", 22 A10 (in) "Address Input 10", 23 A0 (in) "Address Input 0", 24 A1 (in) "Address Input 1", 25 A2 (in) "Address Input 2", 26 A3 (in) "Address Input 3", 27 VDD (power) "Power Supply", 28 VSS (power) "Ground", 29 A4 (in) "Address Input 4", 30 A5 (in) "Address Input 5", 31 A6 (in) "Address Input 6", 32 A7 (in) "Address Input 7", 33 A8 (in) "Address Input 8", 34 A9 (in) "Address Input 9", 35 A11 (in) "Address Input 11", 36 A12 (in) "Address Input 12", 37 CKE (in) "Clock Enable", 38 CLK (in) "Clock", 39 DQMH (in) "Input/Output Mask for DQ8-DQ15", 40 NC "No Connect", 41 VSS (power) "Ground", 42 DQ8 (io) "Data Input/Output 8", 43 VDDQ (power) "DQ Power", 44 DQ9 (io) "Data Input/Output 9", 45 DQ10 (io) "Data Input/Output 10", 46 VSSQ (power) "DQ Ground", 47 DQ11 (io) "Data Input/Output 11", 48 DQ12 (io) "Data Input/Output 12", 49 VDDQ (power) "DQ Power", 50 DQ13 (io) "Data Input/Output 13", 51 DQ14 (io) "Data Input/Output 14", 52 VSSQ (power) "DQ Ground", 53 DQ15 (io) "Data Input/Output 15", 54 VSS (power) "Ground"

## MT48LC16M16A2TG-6A
designator U?
256Mb Synchronous High-Speed CMOS DRAM, 16Mb x 16Bit x 4 Banks, 54-Pin TSOP, Commercial; CycleTime: 6.0ns @ CL = 3; RowAddress: 8K (A0-A12); ColumnAddress: 512 (A0-A8); Published: 11-Oct-2004; LatestRevisionDate: 13-Apr-2006; LatestRevisionNote: IPC-7351 Footprint Added.; DatasheetVersion: RevL, Oct-2007; PackageVersion: Sep-2003; PackageReference: TSOP2-54; Publisher: Altium Limited; PackageDescription: 54-Pin Plastic Small Outline Package 0.8 mm Pitch; Code_JEDEC: MS-024-FA; ComponentLink1Description: Manufacturer Link; ComponentLink1URL: http://www.micron.com; ComponentLink2Description: Datasheet; ComponentLink2URL: http://download.micron.com/pdf/datasheets/dram/sdram/256MSDRAM.pdf
footprint TSOP2-54_N (SOP, 54-Leads, Body 22.2x10.16mm, Pitch 0.8mm, IPC Medium Density)
footprint TSOP2-54_L (SOP, 54-Leads, Body 22.2x10.16mm, Pitch 0.8mm, IPC High Density)
footprint TSOP2-54_M (SOP, 54-Leads, Body 22.2x10.16mm, Pitch 0.8mm, IPC Low Density)
pins: 1 VDD (power) "Power Supply", 2 DQ0 (io) "Data Input/Output 0", 3 VDDQ (power) "DQ Power", 4 DQ1 (io) "Data Input/Output 1", 5 DQ2 (io) "Data Input/Output 2", 6 VSSQ (power) "DQ Ground", 7 DQ3 (io) "Data Input/Output 3", 8 DQ4 (io) "Data Input/Output 4", 9 VDDQ (power) "DQ Power", 10 DQ5 (io) "Data Input/Output 5", 11 DQ6 (io) "Data Input/Output 6", 12 VSSQ (power) "DQ Ground", 13 DQ7 (io) "Data Input/Output 7", 14 VDD (power) "Power Supply", 15 DQML (in) "Input/Output Mask for DQ0-DQ7", 16 ~{WE} (in) "Command Input", 17 ~{CAS} (in) "Command Input", 18 ~{RAS} (in) "Command Input", 19 ~{CS} (in) "Chip Select", 20 BA0 (in) "Bank Address Input 0", 21 BA1 (in) "Bank Address Input 1", 22 A10 (in) "Address Input 10", 23 A0 (in) "Address Input 0", 24 A1 (in) "Address Input 1", 25 A2 (in) "Address Input 2", 26 A3 (in) "Address Input 3", 27 VDD (power) "Power Supply", 28 VSS (power) "Ground", 29 A4 (in) "Address Input 4", 30 A5 (in) "Address Input 5", 31 A6 (in) "Address Input 6", 32 A7 (in) "Address Input 7", 33 A8 (in) "Address Input 8", 34 A9 (in) "Address Input 9", 35 A11 (in) "Address Input 11", 36 A12 (in) "Address Input 12", 37 CKE (in) "Clock Enable", 38 CLK (in) "Clock", 39 DQMH (in) "Input/Output Mask for DQ8-DQ15", 40 NC "No Connect", 41 VSS (power) "Ground", 42 DQ8 (io) "Data Input/Output 8", 43 VDDQ (power) "DQ Power", 44 DQ9 (io) "Data Input/Output 9", 45 DQ10 (io) "Data Input/Output 10", 46 VSSQ (power) "DQ Ground", 47 DQ11 (io) "Data Input/Output 11", 48 DQ12 (io) "Data Input/Output 12", 49 VDDQ (power) "DQ Power", 50 DQ13 (io) "Data Input/Output 13", 51 DQ14 (io) "Data Input/Output 14", 52 VSSQ (power) "DQ Ground", 53 DQ15 (io) "Data Input/Output 15", 54 VSS (power) "Ground"

## MT48LC16M16A2TG-7E
designator U?
256Mb Synchronous High-Speed CMOS DRAM, 16Mb x 16Bit x 4 Banks, 54-Pin TSOP, Commercial; CycleTime: 7.5ns @ CL = 2 (PC133); RowAddress: 8K (A0-A12); ColumnAddress: 512 (A0-A8); Published: 11-Oct-2004; LatestRevisionDate: 13-Apr-2006; LatestRevisionNote: IPC-7351 Footprint Added.; DatasheetVersion: RevL, Oct-2007; PackageVersion: Sep-2003; PackageReference: TSOP2-54; Publisher: Altium Limited; PackageDescription: 54-Pin Plastic Small Outline Package 0.8 mm Pitch; Code_JEDEC: MS-024-FA; ComponentLink1Description: Manufacturer Link; ComponentLink1URL: http://www.micron.com; ComponentLink2Description: Datasheet; ComponentLink2URL: http://download.micron.com/pdf/datasheets/dram/sdram/256MSDRAM.pdf
footprint TSOP2-54_N (SOP, 54-Leads, Body 22.2x10.16mm, Pitch 0.8mm, IPC Medium Density)
footprint TSOP2-54_L (SOP, 54-Leads, Body 22.2x10.16mm, Pitch 0.8mm, IPC High Density)
footprint TSOP2-54_M (SOP, 54-Leads, Body 22.2x10.16mm, Pitch 0.8mm, IPC Low Density)
pins: 1 VDD (power) "Power Supply", 2 DQ0 (io) "Data Input/Output 0", 3 VDDQ (power) "DQ Power", 4 DQ1 (io) "Data Input/Output 1", 5 DQ2 (io) "Data Input/Output 2", 6 VSSQ (power) "DQ Ground", 7 DQ3 (io) "Data Input/Output 3", 8 DQ4 (io) "Data Input/Output 4", 9 VDDQ (power) "DQ Power", 10 DQ5 (io) "Data Input/Output 5", 11 DQ6 (io) "Data Input/Output 6", 12 VSSQ (power) "DQ Ground", 13 DQ7 (io) "Data Input/Output 7", 14 VDD (power) "Power Supply", 15 DQML (in) "Input/Output Mask for DQ0-DQ7", 16 ~{WE} (in) "Command Input", 17 ~{CAS} (in) "Command Input", 18 ~{RAS} (in) "Command Input", 19 ~{CS} (in) "Chip Select", 20 BA0 (in) "Bank Address Input 0", 21 BA1 (in) "Bank Address Input 1", 22 A10 (in) "Address Input 10", 23 A0 (in) "Address Input 0", 24 A1 (in) "Address Input 1", 25 A2 (in) "Address Input 2", 26 A3 (in) "Address Input 3", 27 VDD (power) "Power Supply", 28 VSS (power) "Ground", 29 A4 (in) "Address Input 4", 30 A5 (in) "Address Input 5", 31 A6 (in) "Address Input 6", 32 A7 (in) "Address Input 7", 33 A8 (in) "Address Input 8", 34 A9 (in) "Address Input 9", 35 A11 (in) "Address Input 11", 36 A12 (in) "Address Input 12", 37 CKE (in) "Clock Enable", 38 CLK (in) "Clock", 39 DQMH (in) "Input/Output Mask for DQ8-DQ15", 40 NC "No Connect", 41 VSS (power) "Ground", 42 DQ8 (io) "Data Input/Output 8", 43 VDDQ (power) "DQ Power", 44 DQ9 (io) "Data Input/Output 9", 45 DQ10 (io) "Data Input/Output 10", 46 VSSQ (power) "DQ Ground", 47 DQ11 (io) "Data Input/Output 11", 48 DQ12 (io) "Data Input/Output 12", 49 VDDQ (power) "DQ Power", 50 DQ13 (io) "Data Input/Output 13", 51 DQ14 (io) "Data Input/Output 14", 52 VSSQ (power) "DQ Ground", 53 DQ15 (io) "Data Input/Output 15", 54 VSS (power) "Ground"

## MT48LC16M16A2TG-7E L
designator U?
256Mb Synchronous High-Speed CMOS DRAM, 16Mb x 16Bit x 4 Banks, 54-Pin TSOP, Commercial, Low Power; CycleTime: 7.5ns @ CL = 2 (PC133); RowAddress: 8K (A0-A12); ColumnAddress: 512 (A0-A8); Published: 11-Oct-2004; LatestRevisionDate: 13-Apr-2006; LatestRevisionNote: IPC-7351 Footprint Added.; DatasheetVersion: RevL, Oct-2007; PackageVersion: Sep-2003; PackageReference: TSOP2-54; Publisher: Altium Limited; PackageDescription: 54-Pin Plastic Small Outline Package 0.8 mm Pitch; Code_JEDEC: MS-024-FA; ComponentLink1Description: Manufacturer Link; ComponentLink1URL: http://www.micron.com; ComponentLink2Description: Datasheet; ComponentLink2URL: http://download.micron.com/pdf/datasheets/dram/sdram/256MSDRAM.pdf
footprint TSOP2-54_N (SOP, 54-Leads, Body 22.2x10.16mm, Pitch 0.8mm, IPC Medium Density)
footprint TSOP2-54_L (SOP, 54-Leads, Body 22.2x10.16mm, Pitch 0.8mm, IPC High Density)
footprint TSOP2-54_M (SOP, 54-Leads, Body 22.2x10.16mm, Pitch 0.8mm, IPC Low Density)
pins: 1 VDD (power) "Power Supply", 2 DQ0 (io) "Data Input/Output 0", 3 VDDQ (power) "DQ Power", 4 DQ1 (io) "Data Input/Output 1", 5 DQ2 (io) "Data Input/Output 2", 6 VSSQ (power) "DQ Ground", 7 DQ3 (io) "Data Input/Output 3", 8 DQ4 (io) "Data Input/Output 4", 9 VDDQ (power) "DQ Power", 10 DQ5 (io) "Data Input/Output 5", 11 DQ6 (io) "Data Input/Output 6", 12 VSSQ (power) "DQ Ground", 13 DQ7 (io) "Data Input/Output 7", 14 VDD (power) "Power Supply", 15 DQML (in) "Input/Output Mask for DQ0-DQ7", 16 ~{WE} (in) "Command Input", 17 ~{CAS} (in) "Command Input", 18 ~{RAS} (in) "Command Input", 19 ~{CS} (in) "Chip Select", 20 BA0 (in) "Bank Address Input 0", 21 BA1 (in) "Bank Address Input 1", 22 A10 (in) "Address Input 10", 23 A0 (in) "Address Input 0", 24 A1 (in) "Address Input 1", 25 A2 (in) "Address Input 2", 26 A3 (in) "Address Input 3", 27 VDD (power) "Power Supply", 28 VSS (power) "Ground", 29 A4 (in) "Address Input 4", 30 A5 (in) "Address Input 5", 31 A6 (in) "Address Input 6", 32 A7 (in) "Address Input 7", 33 A8 (in) "Address Input 8", 34 A9 (in) "Address Input 9", 35 A11 (in) "Address Input 11", 36 A12 (in) "Address Input 12", 37 CKE (in) "Clock Enable", 38 CLK (in) "Clock", 39 DQMH (in) "Input/Output Mask for DQ8-DQ15", 40 NC "No Connect", 41 VSS (power) "Ground", 42 DQ8 (io) "Data Input/Output 8", 43 VDDQ (power) "DQ Power", 44 DQ9 (io) "Data Input/Output 9", 45 DQ10 (io) "Data Input/Output 10", 46 VSSQ (power) "DQ Ground", 47 DQ11 (io) "Data Input/Output 11", 48 DQ12 (io) "Data Input/Output 12", 49 VDDQ (power) "DQ Power", 50 DQ13 (io) "Data Input/Output 13", 51 DQ14 (io) "Data Input/Output 14", 52 VSSQ (power) "DQ Ground", 53 DQ15 (io) "Data Input/Output 15", 54 VSS (power) "Ground"

## MT48LC16M16A2TG-75
designator U?
256Mb Synchronous High-Speed CMOS DRAM, 16Mb x 16Bit x 4 Banks, 54-Pin TSOP, Commercial; CycleTime: 7.5ns @ CL = 3 (PC133); RowAddress: 8K (A0-A12); ColumnAddress: 512 (A0-A8); Published: 11-Oct-2004; LatestRevisionDate: 13-Apr-2006; LatestRevisionNote: IPC-7351 Footprint Added.; DatasheetVersion: RevL, Oct-2007; PackageVersion: Sep-2003; PackageReference: TSOP2-54; Publisher: Altium Limited; PackageDescription: 54-Pin Plastic Small Outline Package 0.8 mm Pitch; Code_JEDEC: MS-024-FA; ComponentLink1Description: Manufacturer Link; ComponentLink1URL: http://www.micron.com; ComponentLink2Description: Datasheet; ComponentLink2URL: http://download.micron.com/pdf/datasheets/dram/sdram/256MSDRAM.pdf
footprint TSOP2-54_N (SOP, 54-Leads, Body 22.2x10.16mm, Pitch 0.8mm, IPC Medium Density)
footprint TSOP2-54_L (SOP, 54-Leads, Body 22.2x10.16mm, Pitch 0.8mm, IPC High Density)
footprint TSOP2-54_M (SOP, 54-Leads, Body 22.2x10.16mm, Pitch 0.8mm, IPC Low Density)
pins: 1 VDD (power) "Power Supply", 2 DQ0 (io) "Data Input/Output 0", 3 VDDQ (power) "DQ Power", 4 DQ1 (io) "Data Input/Output 1", 5 DQ2 (io) "Data Input/Output 2", 6 VSSQ (power) "DQ Ground", 7 DQ3 (io) "Data Input/Output 3", 8 DQ4 (io) "Data Input/Output 4", 9 VDDQ (power) "DQ Power", 10 DQ5 (io) "Data Input/Output 5", 11 DQ6 (io) "Data Input/Output 6", 12 VSSQ (power) "DQ Ground", 13 DQ7 (io) "Data Input/Output 7", 14 VDD (power) "Power Supply", 15 DQML (in) "Input/Output Mask for DQ0-DQ7", 16 ~{WE} (in) "Command Input", 17 ~{CAS} (in) "Command Input", 18 ~{RAS} (in) "Command Input", 19 ~{CS} (in) "Chip Select", 20 BA0 (in) "Bank Address Input 0", 21 BA1 (in) "Bank Address Input 1", 22 A10 (in) "Address Input 10", 23 A0 (in) "Address Input 0", 24 A1 (in) "Address Input 1", 25 A2 (in) "Address Input 2", 26 A3 (in) "Address Input 3", 27 VDD (power) "Power Supply", 28 VSS (power) "Ground", 29 A4 (in) "Address Input 4", 30 A5 (in) "Address Input 5", 31 A6 (in) "Address Input 6", 32 A7 (in) "Address Input 7", 33 A8 (in) "Address Input 8", 34 A9 (in) "Address Input 9", 35 A11 (in) "Address Input 11", 36 A12 (in) "Address Input 12", 37 CKE (in) "Clock Enable", 38 CLK (in) "Clock", 39 DQMH (in) "Input/Output Mask for DQ8-DQ15", 40 NC "No Connect", 41 VSS (power) "Ground", 42 DQ8 (io) "Data Input/Output 8", 43 VDDQ (power) "DQ Power", 44 DQ9 (io) "Data Input/Output 9", 45 DQ10 (io) "Data Input/Output 10", 46 VSSQ (power) "DQ Ground", 47 DQ11 (io) "Data Input/Output 11", 48 DQ12 (io) "Data Input/Output 12", 49 VDDQ (power) "DQ Power", 50 DQ13 (io) "Data Input/Output 13", 51 DQ14 (io) "Data Input/Output 14", 52 VSSQ (power) "DQ Ground", 53 DQ15 (io) "Data Input/Output 15", 54 VSS (power) "Ground"

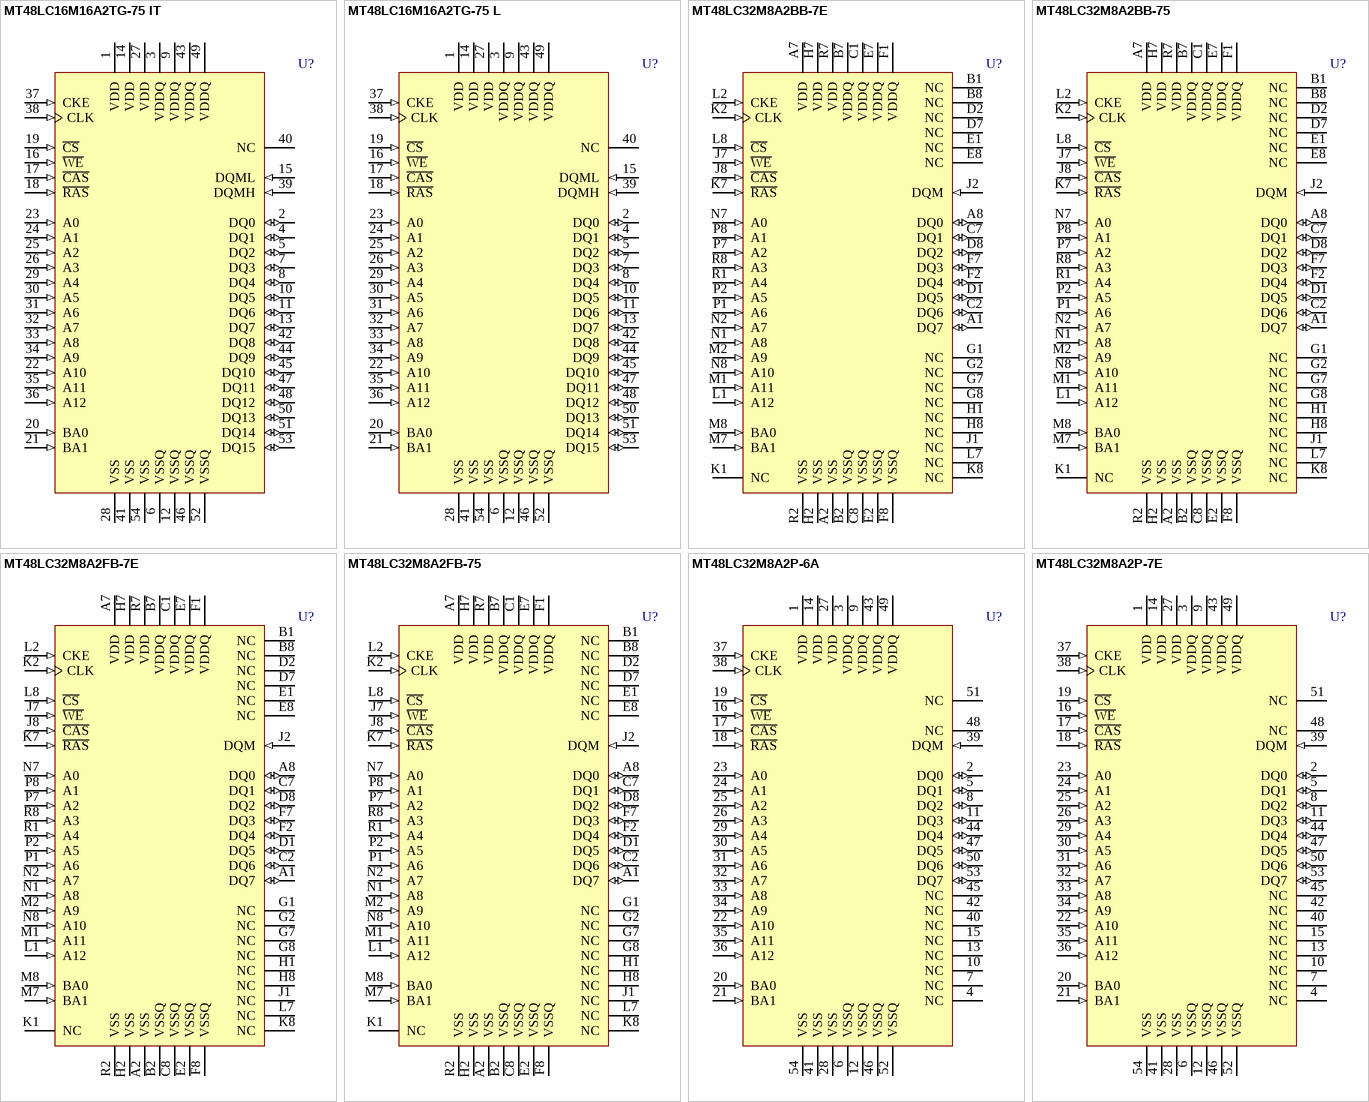
[diagram p2: symbols MT48LC16M16A2TG-75 IT to MT48LC32M8A2P-7E]

## MT48LC16M16A2TG-75 IT
designator U?
256Mb Synchronous High-Speed CMOS DRAM, 16Mb x 16Bit x 4 Banks, 54-Pin TSOP, Industrial; CycleTime: 7.5ns @ CL = 3 (PC133); RowAddress: 8K (A0-A12); ColumnAddress: 512 (A0-A8); Published: 11-Oct-2004; LatestRevisionDate: 13-Apr-2006; LatestRevisionNote: IPC-7351 Footprint Added.; DatasheetVersion: RevL, Oct-2007; PackageVersion: Sep-2003; PackageReference: TSOP2-54; Publisher: Altium Limited; PackageDescription: 54-Pin Plastic Small Outline Package 0.8 mm Pitch; Code_JEDEC: MS-024-FA; ComponentLink1Description: Manufacturer Link; ComponentLink1URL: http://www.micron.com; ComponentLink2Description: Datasheet; ComponentLink2URL: http://download.micron.com/pdf/datasheets/dram/sdram/256MSDRAM.pdf
footprint TSOP2-54_N (SOP, 54-Leads, Body 22.2x10.16mm, Pitch 0.8mm, IPC Medium Density)
footprint TSOP2-54_L (SOP, 54-Leads, Body 22.2x10.16mm, Pitch 0.8mm, IPC High Density)
footprint TSOP2-54_M (SOP, 54-Leads, Body 22.2x10.16mm, Pitch 0.8mm, IPC Low Density)
pins: 1 VDD (power) "Power Supply", 2 DQ0 (io) "Data Input/Output 0", 3 VDDQ (power) "DQ Power", 4 DQ1 (io) "Data Input/Output 1", 5 DQ2 (io) "Data Input/Output 2", 6 VSSQ (power) "DQ Ground", 7 DQ3 (io) "Data Input/Output 3", 8 DQ4 (io) "Data Input/Output 4", 9 VDDQ (power) "DQ Power", 10 DQ5 (io) "Data Input/Output 5", 11 DQ6 (io) "Data Input/Output 6", 12 VSSQ (power) "DQ Ground", 13 DQ7 (io) "Data Input/Output 7", 14 VDD (power) "Power Supply", 15 DQML (in) "Input/Output Mask for DQ0-DQ7", 16 ~{WE} (in) "Command Input", 17 ~{CAS} (in) "Command Input", 18 ~{RAS} (in) "Command Input", 19 ~{CS} (in) "Chip Select", 20 BA0 (in) "Bank Address Input 0", 21 BA1 (in) "Bank Address Input 1", 22 A10 (in) "Address Input 10", 23 A0 (in) "Address Input 0", 24 A1 (in) "Address Input 1", 25 A2 (in) "Address Input 2", 26 A3 (in) "Address Input 3", 27 VDD (power) "Power Supply", 28 VSS (power) "Ground", 29 A4 (in) "Address Input 4", 30 A5 (in) "Address Input 5", 31 A6 (in) "Address Input 6", 32 A7 (in) "Address Input 7", 33 A8 (in) "Address Input 8", 34 A9 (in) "Address Input 9", 35 A11 (in) "Address Input 11", 36 A12 (in) "Address Input 12", 37 CKE (in) "Clock Enable", 38 CLK (in) "Clock", 39 DQMH (in) "Input/Output Mask for DQ8-DQ15", 40 NC "No Connect", 41 VSS (power) "Ground", 42 DQ8 (io) "Data Input/Output 8", 43 VDDQ (power) "DQ Power", 44 DQ9 (io) "Data Input/Output 9", 45 DQ10 (io) "Data Input/Output 10", 46 VSSQ (power) "DQ Ground", 47 DQ11 (io) "Data Input/Output 11", 48 DQ12 (io) "Data Input/Output 12", 49 VDDQ (power) "DQ Power", 50 DQ13 (io) "Data Input/Output 13", 51 DQ14 (io) "Data Input/Output 14", 52 VSSQ (power) "DQ Ground", 53 DQ15 (io) "Data Input/Output 15", 54 VSS (power) "Ground"

## MT48LC16M16A2TG-75 L
designator U?
256Mb Synchronous High-Speed CMOS DRAM, 16Mb x 16Bit x 4 Banks, 54-Pin TSOP, Commercial, Low Power; CycleTime: 7.5ns @ CL = 3 (PC133); RowAddress: 8K (A0-A12); ColumnAddress: 512 (A0-A8); Published: 11-Oct-2004; LatestRevisionDate: 13-Apr-2006; LatestRevisionNote: IPC-7351 Footprint Added.; DatasheetVersion: RevL, Oct-2007; PackageVersion: Sep-2003; PackageReference: TSOP2-54; Publisher: Altium Limited; PackageDescription: 54-Pin Plastic Small Outline Package 0.8 mm Pitch; Code_JEDEC: MS-024-FA; ComponentLink1Description: Manufacturer Link; ComponentLink1URL: http://www.micron.com; ComponentLink2Description: Datasheet; ComponentLink2URL: http://download.micron.com/pdf/datasheets/dram/sdram/256MSDRAM.pdf
footprint TSOP2-54_N (SOP, 54-Leads, Body 22.2x10.16mm, Pitch 0.8mm, IPC Medium Density)
footprint TSOP2-54_L (SOP, 54-Leads, Body 22.2x10.16mm, Pitch 0.8mm, IPC High Density)
footprint TSOP2-54_M (SOP, 54-Leads, Body 22.2x10.16mm, Pitch 0.8mm, IPC Low Density)
pins: 1 VDD (power) "Power Supply", 2 DQ0 (io) "Data Input/Output 0", 3 VDDQ (power) "DQ Power", 4 DQ1 (io) "Data Input/Output 1", 5 DQ2 (io) "Data Input/Output 2", 6 VSSQ (power) "DQ Ground", 7 DQ3 (io) "Data Input/Output 3", 8 DQ4 (io) "Data Input/Output 4", 9 VDDQ (power) "DQ Power", 10 DQ5 (io) "Data Input/Output 5", 11 DQ6 (io) "Data Input/Output 6", 12 VSSQ (power) "DQ Ground", 13 DQ7 (io) "Data Input/Output 7", 14 VDD (power) "Power Supply", 15 DQML (in) "Input/Output Mask for DQ0-DQ7", 16 ~{WE} (in) "Command Input", 17 ~{CAS} (in) "Command Input", 18 ~{RAS} (in) "Command Input", 19 ~{CS} (in) "Chip Select", 20 BA0 (in) "Bank Address Input 0", 21 BA1 (in) "Bank Address Input 1", 22 A10 (in) "Address Input 10", 23 A0 (in) "Address Input 0", 24 A1 (in) "Address Input 1", 25 A2 (in) "Address Input 2", 26 A3 (in) "Address Input 3", 27 VDD (power) "Power Supply", 28 VSS (power) "Ground", 29 A4 (in) "Address Input 4", 30 A5 (in) "Address Input 5", 31 A6 (in) "Address Input 6", 32 A7 (in) "Address Input 7", 33 A8 (in) "Address Input 8", 34 A9 (in) "Address Input 9", 35 A11 (in) "Address Input 11", 36 A12 (in) "Address Input 12", 37 CKE (in) "Clock Enable", 38 CLK (in) "Clock", 39 DQMH (in) "Input/Output Mask for DQ8-DQ15", 40 NC "No Connect", 41 VSS (power) "Ground", 42 DQ8 (io) "Data Input/Output 8", 43 VDDQ (power) "DQ Power", 44 DQ9 (io) "Data Input/Output 9", 45 DQ10 (io) "Data Input/Output 10", 46 VSSQ (power) "DQ Ground", 47 DQ11 (io) "Data Input/Output 11", 48 DQ12 (io) "Data Input/Output 12", 49 VDDQ (power) "DQ Power", 50 DQ13 (io) "Data Input/Output 13", 51 DQ14 (io) "Data Input/Output 14", 52 VSSQ (power) "DQ Ground", 53 DQ15 (io) "Data Input/Output 15", 54 VSS (power) "Ground"